# EAGLE library part 61200622323 (library Wurth_Elektronik_Electromechanic_Wire_to_Board_Connectors_rev16a)
WR-BHD 2.54mm Board to Cable Transition Connector, 6 Pins=>Code : Con_WTB_IDC_61200622323 <http://katalog.we-online.de/media/thumbs2/eican/thb_Con_WTB_IDC_6120xx22323_pf2.jpg> Details see: http://katalog.we-online.de/en/em/612_0xx_223_23 Created 2014-06-05, Karrer Zheng 2014 (C) Würth Elektronik
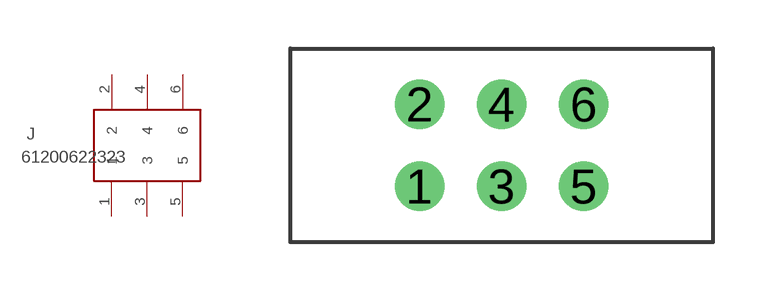
[diagram p112: symbol with the pads of 61200622323; footprint 61200622323]

Designator prefix J

## 61200622323  [61200622323]
1  1  pas
2  2  pas
3  3  pas
4  4  pas
5  5  pas
6  6  pas

## Footprint 61200622323 (pad centres in mm)
WR-BHD 2.54mm Board to Cable Transition Connector, 6 Pins
drill 1.02: 1 -2.54,-1.27; 2 -2.54,1.27; 3 0,-1.27; 4 0,1.27; 5 2.54,-1.27; 6 2.54,1.27